# Altium schematic symbol library ECWFD2J333JB.SchLib: 1 symbol
Pins are listed as number, name and electrical type; pins without a type are passive.

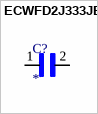
[diagram p0: symbol ECWFD2J333JB]

## ECWFD2J333JB
designator C?
MP: ECWFD2J333JB; Package: None; Value: *; Price: None; Availability: Unavailable
footprint CAPRR750W60L1260T750H1550
pins: 1, 2